# Altium schematic symbol library F_Keys_components.SchLib: 3 symbols
Pins are listed as number, name and electrical type; pins without a type are passive.

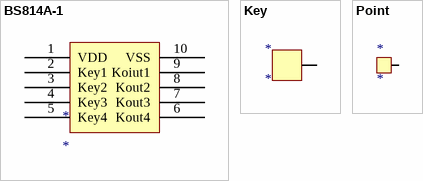
[diagram p0: symbols BS814A-1 to Point]

## BS814A-1
designator *
footprint BS814A-1
pins: 1 VDD, 2 Key1, 3 Key2, 4 Key3, 5 Key4, 6 Kout4, 7 Kout3, 8 Kout2, 9 Koiut1, 10 VSS

## Key
designator *
footprint Key
pins: 1

## Point
designator *
footprint Point
pins: 1